# Altium footprint library ARCOM_RAM.PcbLib: 2 footprints
Each footprint in its own frame and in the unit in brackets; x right, y up, seen from the top. Pads: shape width x height; smd on the part's side, far side on the other; paste and mask are expansions set on the pad; w line width, h text height; cw(c..) or ccw(c..) is an arc to the next point about the centre after c.
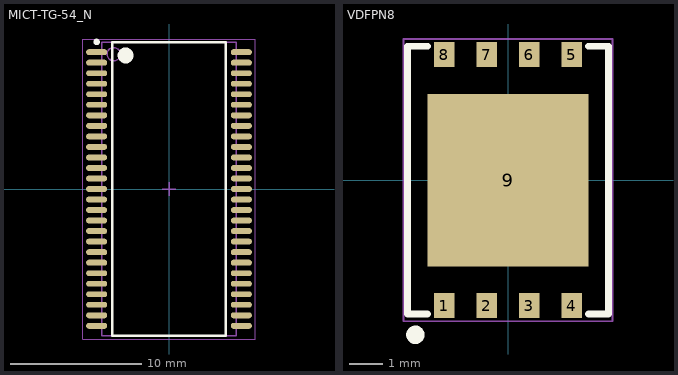
[diagram p0: the footprints below, top view; thin cyan lines are the x and y axes]

## MICT-TG-54_N [mm] "SOP, 54-Leads, Body 22.22x10.16mm, Pitch 0.8mm, IPC Medium Density"
pads (54):
  oval 1.6x0.45 smd: 1(-5.5,10.4) 2(-5.5,9.6) 3(-5.5,8.8) 4(-5.5,8) 5(-5.5,7.2) 6(-5.5,6.4) 7(-5.5,5.6) 8(-5.5,4.8) 9(-5.5,4) 10(-5.5,3.2) 11(-5.5,2.4) 12(-5.5,1.6) 13(-5.5,0.8) 14(-5.5,0) 15(-5.5,-0.8) 16(-5.5,-1.6) 17(-5.5,-2.4) 18(-5.5,-3.2) 19(-5.5,-4) 20(-5.5,-4.8) 21(-5.5,-5.6) 22(-5.5,-6.4) 23(-5.5,-7.2) 24(-5.5,-8) 25(-5.5,-8.8) 26(-5.5,-9.6) 27(-5.5,-10.4) 28(5.5,-10.4) 29(5.5,-9.6) 30(5.5,-8.8) 31(5.5,-8) 32(5.5,-7.2) 33(5.5,-6.4) 34(5.5,-5.6) 35(5.5,-4.8) 36(5.5,-4) 37(5.5,-3.2) 38(5.5,-2.4) 39(5.5,-1.6) 40(5.5,-0.8) 41(5.5,0) 42(5.5,0.8) 43(5.5,1.6) 44(5.5,2.4) 45(5.5,3.2) 46(5.5,4) 47(5.5,4.8) 48(5.5,5.6) 49(5.5,6.4) 50(5.5,7.2) 51(5.5,8) 52(5.5,8.8) 53(5.5,9.6) 54(5.5,10.4)
Top Overlay:
  circle w0.6: c-3.3,10.15 r0.3
  circle w0.25: c-5.5,11.175 r0.125
  lines w0.2: -4.3,-11.15 4.3,-11.15 4.3,11.15 -4.3,11.15 -4.3,-11.15
Mechanical 13:
  circle w0.1: c-4.2,10.25 r0.5
  lines w0.1: -5.1,-11.15 5.1,-11.15 5.1,11.15 -5.1,11.15 -5.1,-11.15
M15 Top Assy:
  lines w0.05: -6.55,-11.4 6.55,-11.4 6.55,11.4 -6.55,11.4 -6.55,-11.4
  lines w0.1: -0.5,0 0.5,0 ; 0,-0.5 0,0.5
3D body: height 0.05, standoff 0, extent -5.1,-11.15 5.1,11.15

## VDFPN8 [mm] "8-lead Very thin Dual Flat Package No lead, 8 ? 6 mm"
height 1
pads (9):
  rect 0.6x0.75 smd: 1(-1.905,-3.75) 2(-0.635,-3.75) 3(0.635,-3.75) 4(1.905,-3.75) 5(1.905,3.75) 6(0.635,3.75) 7(-0.635,3.75) 8(-1.905,3.75)
  rect 4.8x5.16 smd: 9(0,0)
Top Overlay:
  circle w0.3: c-2.768,-4.622 r0.125
  lines w0.2: -2.405,-4 -3,-4 -3,4 -2.405,4 ; 2.406,-4 3,-4 3,4 2.406,4
M15 Top Assy:
  lines w0.05: -3.124,-4.216 -3.124,4.216 3.124,4.216 3.124,-4.216 -3.124,-4.216
  lines w0.1: -0.5,0 0.5,0 ; 0,-0.5 0,0.5
3D body: height 1, standoff 0, extent -2.972,-4.013 2.972,4.013